# EAGLE library part TAGCONNECT (library BGM220S)
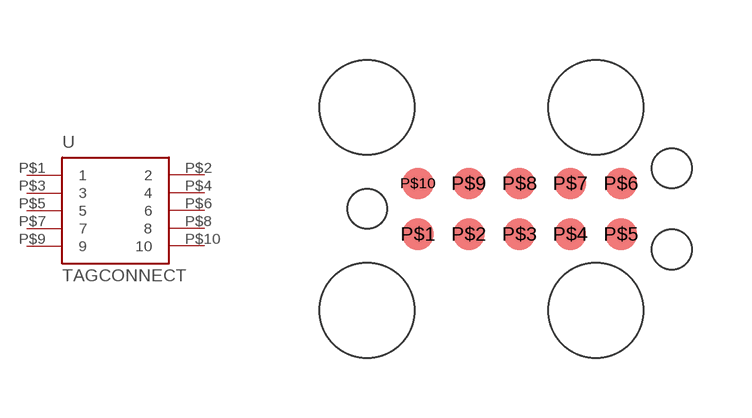
[diagram p5: symbol with the pads of TAGCONNECT; footprint TAGCONNECT]

Designator prefix -

## TAGCONNECT  [TAGCONNECT]
P$1  1  pas
P$2  2  pas
P$3  3  pas
P$4  4  pas
P$5  5  pas
P$6  6  pas
P$7  7  pas
P$8  8  pas
P$9  9  pas
P$10  10  pas

## Footprint TAGCONNECT (pad centres in mm)
smd 0.787 x 0.787: P$1 0,-0.635; P$2 1.27,-0.635; P$3 2.54,-0.635; P$4 3.81,-0.635; P$5 5.08,-0.635; P$6 5.08,0.635; P$7 3.81,0.635; P$8 2.54,0.635; P$9 1.27,0.635; P$10 0,0.635
hole 0.991 at -1.27,0
hole 0.991 at 6.35,1.015
hole 0.991 at 6.35,-1.015
hole 2.375 at -1.27,2.54
hole 2.375 at 4.445,2.54
hole 2.375 at -1.27,-2.54
hole 2.375 at 4.445,-2.54